# Altium schematic symbol library WE-SPXO.SchLib: 254 symbols (part 1 of 5)
Pins are listed as number, name and electrical type; pins without a type are passive.

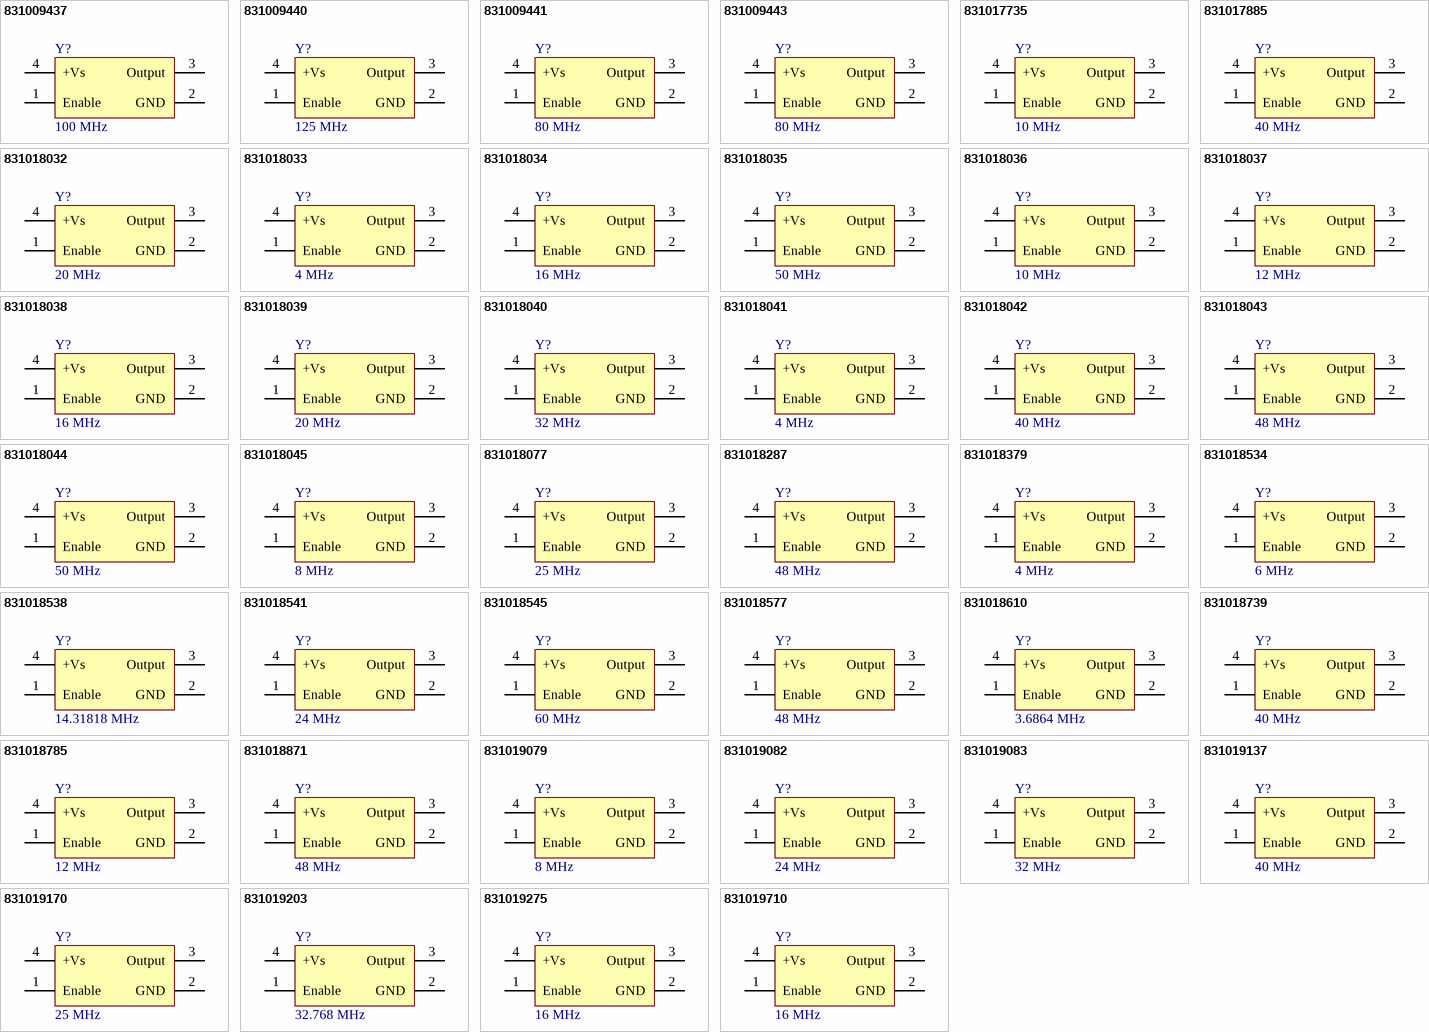
[diagram p0: symbols 831009437 to 831019710]

## 831009437
designator Y?, comment 100 MHz
WE-SPXO Simple Packaged Quartz Oscillator, CFPS-73, 100 MHz, 50 ppm, 3.3 V; Manufacturer Part Number: 831009437; Manufacturer: Wurth Elektronik; Frequency Stability: 50 ppm; Output Logic: CMOS; Supply Voltage: 3.3 V; Category: Oscillators; Match Code: WE-SPXO; ComponentLink1Description: Website Link; ComponentLink1URL: https://www.we-online.com/redexpert/article/831009437?ad; ComponentLink2Description: Datasheet Link; ComponentLink2URL: https://www.we-online.com/redexpert/spec/831009437?ad; Mount: Surface Mount; Min Operating Temperature: 0 °C; Max Operating Temperature: 70 °C; Packaging: Tape and Reel; Case/Size Code: CFPS-73; Length: 7 mm; Width: 5 mm; Height: 1.8 mm; Application: Processor, Ethernet, PCI Express, PHY; Frequency: 100 MHz
footprint WE-SPXO_CFPS-73
pins: 1 Enable, 2 GND, 3 Output, 4 +Vs

## 831009440
designator Y?, comment 125 MHz
WE-SPXO Simple Packaged Quartz Oscillator, CFPS-73, 125 MHz, 50 ppm, 3.3 V; Manufacturer Part Number: 831009440; Manufacturer: Wurth Elektronik; Frequency Stability: 50 ppm; Output Logic: CMOS; Supply Voltage: 3.3 V; Category: Oscillators; Match Code: WE-SPXO; ComponentLink1Description: Website Link; ComponentLink1URL: https://www.we-online.com/redexpert/article/831009440?ad; ComponentLink2Description: Datasheet Link; ComponentLink2URL: https://www.we-online.com/redexpert/spec/831009440?ad; Mount: Surface Mount; Min Operating Temperature: 0 °C; Max Operating Temperature: 70 °C; Packaging: Tape and Reel; Case/Size Code: CFPS-73; Length: 7 mm; Width: 5 mm; Height: 1.8 mm; Application: Ethernet, PHY; Frequency: 125 MHz
footprint WE-SPXO_CFPS-73
pins: 1 Enable, 2 GND, 3 Output, 4 +Vs

## 831009441
designator Y?, comment 80 MHz
WE-SPXO Simple Packaged Quartz Oscillator, CFPS-73, 80 MHz, 50 ppm, 3.3 V; Manufacturer Part Number: 831009441; Manufacturer: Wurth Elektronik; Frequency Stability: 50 ppm; Output Logic: CMOS; Supply Voltage: 3.3 V; Category: Oscillators; Match Code: WE-SPXO; ComponentLink1Description: Website Link; ComponentLink1URL: https://www.we-online.com/redexpert/article/831009441?ad; ComponentLink2Description: Datasheet Link; ComponentLink2URL: https://www.we-online.com/redexpert/spec/831009441?ad; Mount: Surface Mount; Min Operating Temperature: 0 °C; Max Operating Temperature: 70 °C; Packaging: Tape and Reel; Case/Size Code: CFPS-73; Length: 7 mm; Width: 5 mm; Height: 1.8 mm; Application: Processor, Audio; Frequency: 80 MHz
footprint WE-SPXO_CFPS-73
pins: 1 Enable, 2 GND, 3 Output, 4 +Vs

## 831009443
designator Y?, comment 80 MHz
WE-SPXO Simple Packaged Quartz Oscillator, CFPS-72, 80 MHz, 50 ppm, 5 V; Manufacturer Part Number: 831009443; Manufacturer: Wurth Elektronik; Frequency Stability: 50 ppm; Output Logic: CMOS; Supply Voltage: 5 V; Category: Oscillators; Match Code: WE-SPXO; ComponentLink1Description: Website Link; ComponentLink1URL: https://www.we-online.com/redexpert/article/831009443?ad; ComponentLink2Description: Datasheet Link; ComponentLink2URL: https://www.we-online.com/redexpert/spec/831009443?ad; Mount: Surface Mount; Min Operating Temperature: 0 °C; Max Operating Temperature: 70 °C; Packaging: Tape and Reel; Case/Size Code: CFPS-72; Length: 7 mm; Width: 5 mm; Height: 1.8 mm; Application: Processor, Audio; Frequency: 80 MHz
footprint WE-SPXO_CFPS-72
pins: 1 Enable, 2 GND, 3 Output, 4 +Vs

## 831017735
designator Y?, comment 10 MHz
WE-SPXO Simple Packaged Quartz Oscillator, CFPS-72, 10 MHz, 50 ppm, 5 V; Manufacturer Part Number: 831017735; Manufacturer: Wurth Elektronik; Frequency Stability: 50 ppm; Output Logic: CMOS; Supply Voltage: 5 V; Category: Oscillators; Match Code: WE-SPXO; ComponentLink1Description: Website Link; ComponentLink1URL: https://www.we-online.com/redexpert/article/831017735?ad; ComponentLink2Description: Datasheet Link; ComponentLink2URL: https://www.we-online.com/redexpert/spec/831017735?ad; Mount: Surface Mount; Min Operating Temperature: 0 °C; Max Operating Temperature: 70 °C; Packaging: Tape and Reel; Case/Size Code: CFPS-72; Length: 7 mm; Width: 5 mm; Height: 1.8 mm; Application: Processor, Ethernet; Frequency: 10 MHz
footprint WE-SPXO_CFPS-72
pins: 1 Enable, 2 GND, 3 Output, 4 +Vs

## 831017885
designator Y?, comment 40 MHz
WE-SPXO Simple Packaged Quartz Oscillator, CFPS-73, 40 MHz, 50 ppm, 3.3 V; Manufacturer Part Number: 831017885; Manufacturer: Wurth Elektronik; Frequency Stability: 50 ppm; Output Logic: CMOS; Supply Voltage: 3.3 V; Category: Oscillators; Match Code: WE-SPXO; ComponentLink1Description: Website Link; ComponentLink1URL: https://www.we-online.com/redexpert/article/831017885?ad; ComponentLink2Description: Datasheet Link; ComponentLink2URL: https://www.we-online.com/redexpert/spec/831017885?ad; Mount: Surface Mount; Min Operating Temperature: -40 °C; Max Operating Temperature: 85 °C; Packaging: Tape and Reel; Case/Size Code: CFPS-73; Length: 7 mm; Width: 5 mm; Height: 1.8 mm; Application: Processor, USB, 3G/4G/5G, CAN, Wi-Fi; Frequency: 40 MHz
footprint WE-SPXO_CFPS-73
pins: 1 Enable, 2 GND, 3 Output, 4 +Vs

## 831018032
designator Y?, comment 20 MHz
WE-SPXO Simple Packaged Quartz Oscillator, CFPS-72, 20 MHz, 50 ppm, 5 V; Manufacturer Part Number: 831018032; Manufacturer: Wurth Elektronik; Frequency Stability: 50 ppm; Output Logic: CMOS; Supply Voltage: 5 V; Category: Oscillators; Match Code: WE-SPXO; ComponentLink1Description: Website Link; ComponentLink1URL: https://www.we-online.com/redexpert/article/831018032?ad; ComponentLink2Description: Datasheet Link; ComponentLink2URL: https://www.we-online.com/redexpert/spec/831018032?ad; Mount: Surface Mount; Min Operating Temperature: 0 °C; Max Operating Temperature: 70 °C; Packaging: Tape and Reel; Case/Size Code: CFPS-72; Length: 7 mm; Width: 5 mm; Height: 1.8 mm; Application: Processor, CAN, USB, Ethernet, Wi-Fi; Frequency: 20 MHz
footprint WE-SPXO_CFPS-72
pins: 1 Enable, 2 GND, 3 Output, 4 +Vs

## 831018033
designator Y?, comment 4 MHz
WE-SPXO Simple Packaged Quartz Oscillator, CFPS-72, 4 MHz, 50 ppm, 5 V; Manufacturer Part Number: 831018033; Manufacturer: Wurth Elektronik; Frequency Stability: 50 ppm; Output Logic: CMOS; Supply Voltage: 5 V; Category: Oscillators; Match Code: WE-SPXO; ComponentLink1Description: Website Link; ComponentLink1URL: https://www.we-online.com/redexpert/article/831018033?ad; ComponentLink2Description: Datasheet Link; ComponentLink2URL: https://www.we-online.com/redexpert/spec/831018033?ad; Mount: Surface Mount; Min Operating Temperature: 0 °C; Max Operating Temperature: 70 °C; Packaging: Tape and Reel; Case/Size Code: CFPS-72; Length: 7 mm; Width: 5 mm; Height: 1.8 mm; Application: CAN, Processor; Frequency: 4 MHz
footprint WE-SPXO_CFPS-72
pins: 1 Enable, 2 GND, 3 Output, 4 +Vs

## 831018034
designator Y?, comment 16 MHz
WE-SPXO Simple Packaged Quartz Oscillator, CFPS-72, 16 MHz, 50 ppm, 5 V; Manufacturer Part Number: 831018034; Manufacturer: Wurth Elektronik; Frequency Stability: 50 ppm; Output Logic: CMOS; Supply Voltage: 5 V; Category: Oscillators; Match Code: WE-SPXO; ComponentLink1Description: Website Link; ComponentLink1URL: https://www.we-online.com/redexpert/article/831018034?ad; ComponentLink2Description: Datasheet Link; ComponentLink2URL: https://www.we-online.com/redexpert/spec/831018034?ad; Mount: Surface Mount; Min Operating Temperature: 0 °C; Max Operating Temperature: 70 °C; Packaging: Tape and Reel; Case/Size Code: CFPS-72; Length: 7 mm; Width: 5 mm; Height: 1.8 mm; Application: Processor, CAN, Bluetooth; Frequency: 16 MHz
footprint WE-SPXO_CFPS-72
pins: 1 Enable, 2 GND, 3 Output, 4 +Vs

## 831018035
designator Y?, comment 50 MHz
WE-SPXO Simple Packaged Quartz Oscillator, CFPS-72, 50 MHz, 50 ppm, 5 V; Manufacturer Part Number: 831018035; Manufacturer: Wurth Elektronik; Frequency Stability: 50 ppm; Output Logic: CMOS; Supply Voltage: 5 V; Category: Oscillators; Match Code: WE-SPXO; ComponentLink1Description: Website Link; ComponentLink1URL: https://www.we-online.com/redexpert/article/831018035?ad; ComponentLink2Description: Datasheet Link; ComponentLink2URL: https://www.we-online.com/redexpert/spec/831018035?ad; Mount: Surface Mount; Min Operating Temperature: 0 °C; Max Operating Temperature: 70 °C; Packaging: Tape and Reel; Case/Size Code: CFPS-72; Length: 7 mm; Width: 5 mm; Height: 1.8 mm; Application: Processor, Ethernet, PCI Express, PHY; Frequency: 50 MHz
footprint WE-SPXO_CFPS-72
pins: 1 Enable, 2 GND, 3 Output, 4 +Vs

## 831018036
designator Y?, comment 10 MHz
WE-SPXO Simple Packaged Quartz Oscillator, CFPS-73, 10 MHz, 50 ppm, 3.3 V; Manufacturer Part Number: 831018036; Manufacturer: Wurth Elektronik; Frequency Stability: 50 ppm; Output Logic: CMOS; Supply Voltage: 3.3 V; Category: Oscillators; Match Code: WE-SPXO; ComponentLink1Description: Website Link; ComponentLink1URL: https://www.we-online.com/redexpert/article/831018036?ad; ComponentLink2Description: Datasheet Link; ComponentLink2URL: https://www.we-online.com/redexpert/spec/831018036?ad; Mount: Surface Mount; Min Operating Temperature: 0 °C; Max Operating Temperature: 70 °C; Packaging: Tape and Reel; Case/Size Code: CFPS-73; Length: 7 mm; Width: 5 mm; Height: 1.8 mm; Application: Processor, Ethernet; Frequency: 10 MHz
footprint WE-SPXO_CFPS-73
pins: 1 Enable, 2 GND, 3 Output, 4 +Vs

## 831018037
designator Y?, comment 12 MHz
WE-SPXO Simple Packaged Quartz Oscillator, CFPS-73, 12 MHz, 50 ppm, 3.3 V; Manufacturer Part Number: 831018037; Manufacturer: Wurth Elektronik; Frequency Stability: 50 ppm; Output Logic: CMOS; Supply Voltage: 3.3 V; Category: Oscillators; Match Code: WE-SPXO; ComponentLink1Description: Website Link; ComponentLink1URL: https://www.we-online.com/redexpert/article/831018037?ad; ComponentLink2Description: Datasheet Link; ComponentLink2URL: https://www.we-online.com/redexpert/spec/831018037?ad; Mount: Surface Mount; Min Operating Temperature: 0 °C; Max Operating Temperature: 70 °C; Packaging: Tape and Reel; Case/Size Code: CFPS-73; Length: 7 mm; Width: 5 mm; Height: 1.8 mm; Application: Processor, USB, CAN; Frequency: 12 MHz
footprint WE-SPXO_CFPS-73
pins: 1 Enable, 2 GND, 3 Output, 4 +Vs

## 831018038
designator Y?, comment 16 MHz
WE-SPXO Simple Packaged Quartz Oscillator, CFPS-73, 16 MHz, 50 ppm, 3.3 V; Manufacturer Part Number: 831018038; Manufacturer: Wurth Elektronik; Frequency Stability: 50 ppm; Output Logic: CMOS; Supply Voltage: 3.3 V; Category: Oscillators; Match Code: WE-SPXO; ComponentLink1Description: Website Link; ComponentLink1URL: https://www.we-online.com/redexpert/article/831018038?ad; ComponentLink2Description: Datasheet Link; ComponentLink2URL: https://www.we-online.com/redexpert/spec/831018038?ad; Mount: Surface Mount; Min Operating Temperature: 0 °C; Max Operating Temperature: 70 °C; Packaging: Tape and Reel; Case/Size Code: CFPS-73; Length: 7 mm; Width: 5 mm; Height: 1.8 mm; Application: Processor, CAN, Bluetooth; Frequency: 16 MHz
footprint WE-SPXO_CFPS-73
pins: 1 Enable, 2 GND, 3 Output, 4 +Vs

## 831018039
designator Y?, comment 20 MHz
WE-SPXO Simple Packaged Quartz Oscillator, CFPS-73, 20 MHz, 50 ppm, 3.3 V; Manufacturer Part Number: 831018039; Manufacturer: Wurth Elektronik; Frequency Stability: 50 ppm; Output Logic: CMOS; Supply Voltage: 3.3 V; Category: Oscillators; Match Code: WE-SPXO; ComponentLink1Description: Website Link; ComponentLink1URL: https://www.we-online.com/redexpert/article/831018039?ad; ComponentLink2Description: Datasheet Link; ComponentLink2URL: https://www.we-online.com/redexpert/spec/831018039?ad; Mount: Surface Mount; Min Operating Temperature: 0 °C; Max Operating Temperature: 70 °C; Packaging: Tape and Reel; Case/Size Code: CFPS-73; Length: 7 mm; Width: 5 mm; Height: 1.8 mm; Application: Processor, CAN, USB, Ethernet, Wi-Fi; Frequency: 20 MHz
footprint WE-SPXO_CFPS-73
pins: 1 Enable, 2 GND, 3 Output, 4 +Vs

## 831018040
designator Y?, comment 32 MHz
WE-SPXO Simple Packaged Quartz Oscillator, CFPS-73, 32 MHz, 50 ppm, 3.3 V; Manufacturer Part Number: 831018040; Manufacturer: Wurth Elektronik; Frequency Stability: 50 ppm; Output Logic: CMOS; Supply Voltage: 3.3 V; Category: Oscillators; Match Code: WE-SPXO; ComponentLink1Description: Website Link; ComponentLink1URL: https://www.we-online.com/redexpert/article/831018040?ad; ComponentLink2Description: Datasheet Link; ComponentLink2URL: https://www.we-online.com/redexpert/spec/831018040?ad; Mount: Surface Mount; Min Operating Temperature: 0 °C; Max Operating Temperature: 70 °C; Packaging: Tape and Reel; Case/Size Code: CFPS-73; Length: 7 mm; Width: 5 mm; Height: 1.8 mm; Application: Processor, Bluetooth; Frequency: 32 MHz
footprint WE-SPXO_CFPS-73
pins: 1 Enable, 2 GND, 3 Output, 4 +Vs

## 831018041
designator Y?, comment 4 MHz
WE-SPXO Simple Packaged Quartz Oscillator, CFPS-73, 4 MHz, 50 ppm, 3.3 V; Manufacturer Part Number: 831018041; Manufacturer: Wurth Elektronik; Frequency Stability: 50 ppm; Output Logic: CMOS; Supply Voltage: 3.3 V; Category: Oscillators; Match Code: WE-SPXO; ComponentLink1Description: Website Link; ComponentLink1URL: https://www.we-online.com/redexpert/article/831018041?ad; ComponentLink2Description: Datasheet Link; ComponentLink2URL: https://www.we-online.com/redexpert/spec/831018041?ad; Mount: Surface Mount; Min Operating Temperature: 0 °C; Max Operating Temperature: 70 °C; Packaging: Tape and Reel; Case/Size Code: CFPS-73; Length: 7 mm; Width: 5 mm; Height: 1.8 mm; Application: CAN, Processor; Frequency: 4 MHz
footprint WE-SPXO_CFPS-73
pins: 1 Enable, 2 GND, 3 Output, 4 +Vs

## 831018042
designator Y?, comment 40 MHz
WE-SPXO Simple Packaged Quartz Oscillator, CFPS-73, 40 MHz, 50 ppm, 3.3 V; Manufacturer Part Number: 831018042; Manufacturer: Wurth Elektronik; Frequency Stability: 50 ppm; Output Logic: CMOS; Supply Voltage: 3.3 V; Category: Oscillators; Match Code: WE-SPXO; ComponentLink1Description: Website Link; ComponentLink1URL: https://www.we-online.com/redexpert/article/831018042?ad; ComponentLink2Description: Datasheet Link; ComponentLink2URL: https://www.we-online.com/redexpert/spec/831018042?ad; Mount: Surface Mount; Min Operating Temperature: 0 °C; Max Operating Temperature: 70 °C; Packaging: Tape and Reel; Case/Size Code: CFPS-73; Length: 7 mm; Width: 5 mm; Height: 1.8 mm; Application: Processor, USB, 3G/4G/5G, CAN, Wi-Fi; Frequency: 40 MHz
footprint WE-SPXO_CFPS-73
pins: 1 Enable, 2 GND, 3 Output, 4 +Vs

## 831018043
designator Y?, comment 48 MHz
WE-SPXO Simple Packaged Quartz Oscillator, CFPS-73, 48 MHz, 50 ppm, 3.3 V; Manufacturer Part Number: 831018043; Manufacturer: Wurth Elektronik; Frequency Stability: 50 ppm; Output Logic: CMOS; Supply Voltage: 3.3 V; Category: Oscillators; Match Code: WE-SPXO; ComponentLink1Description: Website Link; ComponentLink1URL: https://www.we-online.com/redexpert/article/831018043?ad; ComponentLink2Description: Datasheet Link; ComponentLink2URL: https://www.we-online.com/redexpert/spec/831018043?ad; Mount: Surface Mount; Min Operating Temperature: 0 °C; Max Operating Temperature: 70 °C; Packaging: Tape and Reel; Case/Size Code: CFPS-73; Length: 7 mm; Width: 5 mm; Height: 1.8 mm; Application: Processor, USB, Wi-Fi; Frequency: 48 MHz
footprint WE-SPXO_CFPS-73
pins: 1 Enable, 2 GND, 3 Output, 4 +Vs

## 831018044
designator Y?, comment 50 MHz
WE-SPXO Simple Packaged Quartz Oscillator, CFPS-73, 50 MHz, 50 ppm, 3.3 V; Manufacturer Part Number: 831018044; Manufacturer: Wurth Elektronik; Frequency Stability: 50 ppm; Output Logic: CMOS; Supply Voltage: 3.3 V; Category: Oscillators; Match Code: WE-SPXO; ComponentLink1Description: Website Link; ComponentLink1URL: https://www.we-online.com/redexpert/article/831018044?ad; ComponentLink2Description: Datasheet Link; ComponentLink2URL: https://www.we-online.com/redexpert/spec/831018044?ad; Mount: Surface Mount; Min Operating Temperature: 0 °C; Max Operating Temperature: 70 °C; Packaging: Tape and Reel; Case/Size Code: CFPS-73; Length: 7 mm; Width: 5 mm; Height: 1.8 mm; Application: Processor, Ethernet, PCI Express, PHY; Frequency: 50 MHz
footprint WE-SPXO_CFPS-73
pins: 1 Enable, 2 GND, 3 Output, 4 +Vs

## 831018045
designator Y?, comment 8 MHz
WE-SPXO Simple Packaged Quartz Oscillator, CFPS-73, 8 MHz, 50 ppm, 3.3 V; Manufacturer Part Number: 831018045; Manufacturer: Wurth Elektronik; Frequency Stability: 50 ppm; Output Logic: CMOS; Supply Voltage: 3.3 V; Category: Oscillators; Match Code: WE-SPXO; ComponentLink1Description: Website Link; ComponentLink1URL: https://www.we-online.com/redexpert/article/831018045?ad; ComponentLink2Description: Datasheet Link; ComponentLink2URL: https://www.we-online.com/redexpert/spec/831018045?ad; Mount: Surface Mount; Min Operating Temperature: 0 °C; Max Operating Temperature: 70 °C; Packaging: Tape and Reel; Case/Size Code: CFPS-73; Length: 7 mm; Width: 5 mm; Height: 1.8 mm; Application: Processor, UART; Frequency: 8 MHz
footprint WE-SPXO_CFPS-73
pins: 1 Enable, 2 GND, 3 Output, 4 +Vs

## 831018077
designator Y?, comment 25 MHz
WE-SPXO Simple Packaged Quartz Oscillator, CFPS-73, 25 MHz, 50 ppm, 3.3 V; Manufacturer Part Number: 831018077; Manufacturer: Wurth Elektronik; Frequency Stability: 50 ppm; Output Logic: CMOS; Supply Voltage: 3.3 V; Category: Oscillators; Match Code: WE-SPXO; ComponentLink1Description: Website Link; ComponentLink1URL: https://www.we-online.com/redexpert/article/831018077?ad; ComponentLink2Description: Datasheet Link; ComponentLink2URL: https://www.we-online.com/redexpert/spec/831018077?ad; Mount: Surface Mount; Min Operating Temperature: 0 °C; Max Operating Temperature: 70 °C; Packaging: Tape and Reel; Case/Size Code: CFPS-73; Length: 7 mm; Width: 5 mm; Height: 1.8 mm; Application: Processor, USB, 3G/4G/5G, Ethernet, Small Cell, PHY, PCI Express; Frequency: 25 MHz
footprint WE-SPXO_CFPS-73
pins: 1 Enable, 2 GND, 3 Output, 4 +Vs

## 831018287
designator Y?, comment 48 MHz
WE-SPXO Simple Packaged Quartz Oscillator, CFPS-73, 48 MHz, 100 ppm, 3.3 V; Manufacturer Part Number: 831018287; Manufacturer: Wurth Elektronik; Frequency Stability: 100 ppm; Output Logic: CMOS; Supply Voltage: 3.3 V; Category: Oscillators; Match Code: WE-SPXO; ComponentLink1Description: Website Link; ComponentLink1URL: https://www.we-online.com/redexpert/article/831018287?ad; ComponentLink2Description: Datasheet Link; ComponentLink2URL: https://www.we-online.com/redexpert/spec/831018287?ad; Mount: Surface Mount; Min Operating Temperature: -40 °C; Max Operating Temperature: 85 °C; Packaging: Tape and Reel; Case/Size Code: CFPS-73; Length: 7 mm; Width: 5 mm; Height: 1.8 mm; Application: Processor, USB, Wi-Fi; Frequency: 48 MHz
footprint WE-SPXO_CFPS-73
pins: 1 Enable, 2 GND, 3 Output, 4 +Vs

## 831018379
designator Y?, comment 4 MHz
WE-SPXO Simple Packaged Quartz Oscillator, CFPS-73, 4 MHz, 50 ppm, 3.3 V; Manufacturer Part Number: 831018379; Manufacturer: Wurth Elektronik; Frequency Stability: 50 ppm; Output Logic: CMOS; Supply Voltage: 3.3 V; Category: Oscillators; Match Code: WE-SPXO; ComponentLink1Description: Website Link; ComponentLink1URL: https://www.we-online.com/redexpert/article/831018379?ad; ComponentLink2Description: Datasheet Link; ComponentLink2URL: https://www.we-online.com/redexpert/spec/831018379?ad; Mount: Surface Mount; Min Operating Temperature: -40 °C; Max Operating Temperature: 85 °C; Packaging: Tape and Reel; Case/Size Code: CFPS-73; Length: 7 mm; Width: 5 mm; Height: 1.8 mm; Application: CAN, Processor; Frequency: 4 MHz
footprint WE-SPXO_CFPS-73
pins: 1 Enable, 2 GND, 3 Output, 4 +Vs

## 831018534
designator Y?, comment 6 MHz
WE-SPXO Simple Packaged Quartz Oscillator, CFPS-73, 6 MHz, 50 ppm, 3.3 V; Manufacturer Part Number: 831018534; Manufacturer: Wurth Elektronik; Frequency Stability: 50 ppm; Output Logic: CMOS; Supply Voltage: 3.3 V; Category: Oscillators; Match Code: WE-SPXO; ComponentLink1Description: Website Link; ComponentLink1URL: https://www.we-online.com/redexpert/article/831018534?ad; ComponentLink2Description: Datasheet Link; ComponentLink2URL: https://www.we-online.com/redexpert/spec/831018534?ad; Mount: Surface Mount; Min Operating Temperature: 0 °C; Max Operating Temperature: 70 °C; Packaging: Tape and Reel; Case/Size Code: CFPS-73; Length: 7 mm; Width: 5 mm; Height: 1.8 mm; Application: Processor, USB; Frequency: 6 MHz
footprint WE-SPXO_CFPS-73
pins: 1 Enable, 2 GND, 3 Output, 4 +Vs

## 831018538
designator Y?, comment 14.31818 MHz
WE-SPXO Simple Packaged Quartz Oscillator, CFPS-73, 14.31818 MHz, 50 ppm, 3.3 V; Manufacturer Part Number: 831018538; Manufacturer: Wurth Elektronik; Frequency Stability: 50 ppm; Output Logic: CMOS; Supply Voltage: 3.3 V; Category: Oscillators; Match Code: WE-SPXO; ComponentLink1Description: Website Link; ComponentLink1URL: https://www.we-online.com/redexpert/article/831018538?ad; ComponentLink2Description: Datasheet Link; ComponentLink2URL: https://www.we-online.com/redexpert/spec/831018538?ad; Mount: Surface Mount; Min Operating Temperature: 0 °C; Max Operating Temperature: 70 °C; Packaging: Tape and Reel; Case/Size Code: CFPS-73; Length: 7 mm; Width: 5 mm; Height: 1.8 mm; Application: Processor; Frequency: 14.31818 MHz
footprint WE-SPXO_CFPS-73
pins: 1 Enable, 2 GND, 3 Output, 4 +Vs

## 831018541
designator Y?, comment 24 MHz
WE-SPXO Simple Packaged Quartz Oscillator, CFPS-73, 24 MHz, 50 ppm, 3.3 V; Manufacturer Part Number: 831018541; Manufacturer: Wurth Elektronik; Frequency Stability: 50 ppm; Output Logic: CMOS; Supply Voltage: 3.3 V; Category: Oscillators; Match Code: WE-SPXO; ComponentLink1Description: Website Link; ComponentLink1URL: https://www.we-online.com/redexpert/article/831018541?ad; ComponentLink2Description: Datasheet Link; ComponentLink2URL: https://www.we-online.com/redexpert/spec/831018541?ad; Mount: Surface Mount; Min Operating Temperature: 0 °C; Max Operating Temperature: 70 °C; Packaging: Tape and Reel; Case/Size Code: CFPS-73; Length: 7 mm; Width: 5 mm; Height: 1.8 mm; Application: Processor, USB, Bluetooth; Frequency: 24 MHz
footprint WE-SPXO_CFPS-73
pins: 1 Enable, 2 GND, 3 Output, 4 +Vs

## 831018545
designator Y?, comment 60 MHz
WE-SPXO Simple Packaged Quartz Oscillator, CFPS-73, 60 MHz, 50 ppm, 3.3 V; Manufacturer Part Number: 831018545; Manufacturer: Wurth Elektronik; Frequency Stability: 50 ppm; Output Logic: CMOS; Supply Voltage: 3.3 V; Category: Oscillators; Match Code: WE-SPXO; ComponentLink1Description: Website Link; ComponentLink1URL: https://www.we-online.com/redexpert/article/831018545?ad; ComponentLink2Description: Datasheet Link; ComponentLink2URL: https://www.we-online.com/redexpert/spec/831018545?ad; Mount: Surface Mount; Min Operating Temperature: 0 °C; Max Operating Temperature: 70 °C; Packaging: Tape and Reel; Case/Size Code: CFPS-73; Length: 7 mm; Width: 5 mm; Height: 1.8 mm; Application: Processor; Frequency: 60 MHz
footprint WE-SPXO_CFPS-73
pins: 1 Enable, 2 GND, 3 Output, 4 +Vs

## 831018577
designator Y?, comment 48 MHz
WE-SPXO Simple Packaged Quartz Oscillator, CFPS-73, 48 MHz, 50 ppm, 3.3 V; Manufacturer Part Number: 831018577; Manufacturer: Wurth Elektronik; Frequency Stability: 50 ppm; Output Logic: CMOS; Supply Voltage: 3.3 V; Category: Oscillators; Match Code: WE-SPXO; ComponentLink1Description: Website Link; ComponentLink1URL: https://www.we-online.com/redexpert/article/831018577?ad; ComponentLink2Description: Datasheet Link; ComponentLink2URL: https://www.we-online.com/redexpert/spec/831018577?ad; Mount: Surface Mount; Min Operating Temperature: -40 °C; Max Operating Temperature: 85 °C; Packaging: Tape and Reel; Case/Size Code: CFPS-73; Length: 7 mm; Width: 5 mm; Height: 1.8 mm; Application: Processor, USB, Wi-Fi; Frequency: 48 MHz
footprint WE-SPXO_CFPS-73
pins: 1 Enable, 2 GND, 3 Output, 4 +Vs

## 831018610
designator Y?, comment 3.6864 MHz
WE-SPXO Simple Packaged Quartz Oscillator, CFPS-73, 3.6864 MHz, 50 ppm, 3.3 V; Manufacturer Part Number: 831018610; Manufacturer: Wurth Elektronik; Frequency Stability: 50 ppm; Output Logic: CMOS; Supply Voltage: 3.3 V; Category: Oscillators; Match Code: WE-SPXO; ComponentLink1Description: Website Link; ComponentLink1URL: https://www.we-online.com/redexpert/article/831018610?ad; ComponentLink2Description: Datasheet Link; ComponentLink2URL: https://www.we-online.com/redexpert/spec/831018610?ad; Mount: Surface Mount; Min Operating Temperature: 0 °C; Max Operating Temperature: 70 °C; Packaging: Tape and Reel; Case/Size Code: CFPS-73; Length: 7 mm; Width: 5 mm; Height: 1.8 mm; Application: Processor, UART; Frequency: 3.6864 MHz
footprint WE-SPXO_CFPS-73
pins: 1 Enable, 2 GND, 3 Output, 4 +Vs

## 831018739
designator Y?, comment 40 MHz
WE-SPXO Simple Packaged Quartz Oscillator, CFPS-72, 40 MHz, 50 ppm, 5 V; Manufacturer Part Number: 831018739; Manufacturer: Wurth Elektronik; Frequency Stability: 50 ppm; Output Logic: CMOS; Supply Voltage: 5 V; Category: Oscillators; Match Code: WE-SPXO; ComponentLink1Description: Website Link; ComponentLink1URL: https://www.we-online.com/redexpert/article/831018739?ad; ComponentLink2Description: Datasheet Link; ComponentLink2URL: https://www.we-online.com/redexpert/spec/831018739?ad; Mount: Surface Mount; Min Operating Temperature: 0 °C; Max Operating Temperature: 70 °C; Packaging: Tape and Reel; Case/Size Code: CFPS-72; Length: 7 mm; Width: 5 mm; Height: 1.8 mm; Application: Processor, USB, 3G/4G/5G, CAN, Wi-Fi; Frequency: 40 MHz
footprint WE-SPXO_CFPS-72
pins: 1 Enable, 2 GND, 3 Output, 4 +Vs

## 831018785
designator Y?, comment 12 MHz
WE-SPXO Simple Packaged Quartz Oscillator, CFPS-73, 12 MHz, 100 ppm, 3.3 V; Manufacturer Part Number: 831018785; Manufacturer: Wurth Elektronik; Frequency Stability: 100 ppm; Output Logic: CMOS; Supply Voltage: 3.3 V; Category: Oscillators; Match Code: WE-SPXO; ComponentLink1Description: Website Link; ComponentLink1URL: https://www.we-online.com/redexpert/article/831018785?ad; ComponentLink2Description: Datasheet Link; ComponentLink2URL: https://www.we-online.com/redexpert/spec/831018785?ad; Mount: Surface Mount; Min Operating Temperature: -40 °C; Max Operating Temperature: 85 °C; Packaging: Tape and Reel; Case/Size Code: CFPS-73; Length: 7 mm; Width: 5 mm; Height: 1.8 mm; Application: Processor, USB, CAN; Frequency: 12 MHz
footprint WE-SPXO_CFPS-73
pins: 1 Enable, 2 GND, 3 Output, 4 +Vs

## 831018871
designator Y?, comment 48 MHz
WE-SPXO Simple Packaged Quartz Oscillator, CFPS-72, 48 MHz, 100 ppm, 5 V; Manufacturer Part Number: 831018871; Manufacturer: Wurth Elektronik; Frequency Stability: 100 ppm; Output Logic: CMOS; Supply Voltage: 5 V; Category: Oscillators; Match Code: WE-SPXO; ComponentLink1Description: Website Link; ComponentLink1URL: https://www.we-online.com/redexpert/article/831018871?ad; ComponentLink2Description: Datasheet Link; ComponentLink2URL: https://www.we-online.com/redexpert/spec/831018871?ad; Mount: Surface Mount; Min Operating Temperature: -40 °C; Max Operating Temperature: 85 °C; Packaging: Tape and Reel; Case/Size Code: CFPS-72; Length: 7 mm; Width: 5 mm; Height: 1.8 mm; Application: Processor, USB, Wi-Fi; Frequency: 48 MHz
footprint WE-SPXO_CFPS-72
pins: 1 Enable, 2 GND, 3 Output, 4 +Vs

## 831019079
designator Y?, comment 8 MHz
WE-SPXO Simple Packaged Quartz Oscillator, CFPS-72, 8 MHz, 50 ppm, 5 V; Manufacturer Part Number: 831019079; Manufacturer: Wurth Elektronik; Frequency Stability: 50 ppm; Output Logic: CMOS; Supply Voltage: 5 V; Category: Oscillators; Match Code: WE-SPXO; ComponentLink1Description: Website Link; ComponentLink1URL: https://www.we-online.com/redexpert/article/831019079?ad; ComponentLink2Description: Datasheet Link; ComponentLink2URL: https://www.we-online.com/redexpert/spec/831019079?ad; Mount: Surface Mount; Min Operating Temperature: 0 °C; Max Operating Temperature: 70 °C; Packaging: Tape and Reel; Case/Size Code: CFPS-72; Length: 7 mm; Width: 5 mm; Height: 1.8 mm; Application: Processor, UART; Frequency: 8 MHz
footprint WE-SPXO_CFPS-72
pins: 1 Enable, 2 GND, 3 Output, 4 +Vs

## 831019082
designator Y?, comment 24 MHz
WE-SPXO Simple Packaged Quartz Oscillator, CFPS-72, 24 MHz, 50 ppm, 5 V; Manufacturer Part Number: 831019082; Manufacturer: Wurth Elektronik; Frequency Stability: 50 ppm; Output Logic: CMOS; Supply Voltage: 5 V; Category: Oscillators; Match Code: WE-SPXO; ComponentLink1Description: Website Link; ComponentLink1URL: https://www.we-online.com/redexpert/article/831019082?ad; ComponentLink2Description: Datasheet Link; ComponentLink2URL: https://www.we-online.com/redexpert/spec/831019082?ad; Mount: Surface Mount; Min Operating Temperature: 0 °C; Max Operating Temperature: 70 °C; Packaging: Tape and Reel; Case/Size Code: CFPS-72; Length: 7 mm; Width: 5 mm; Height: 1.8 mm; Application: Processor, USB, Bluetooth; Frequency: 24 MHz
footprint WE-SPXO_CFPS-72
pins: 1 Enable, 2 GND, 3 Output, 4 +Vs

## 831019083
designator Y?, comment 32 MHz
WE-SPXO Simple Packaged Quartz Oscillator, CFPS-72, 32 MHz, 50 ppm, 5 V; Manufacturer Part Number: 831019083; Manufacturer: Wurth Elektronik; Frequency Stability: 50 ppm; Output Logic: CMOS; Supply Voltage: 5 V; Category: Oscillators; Match Code: WE-SPXO; ComponentLink1Description: Website Link; ComponentLink1URL: https://www.we-online.com/redexpert/article/831019083?ad; ComponentLink2Description: Datasheet Link; ComponentLink2URL: https://www.we-online.com/redexpert/spec/831019083?ad; Mount: Surface Mount; Min Operating Temperature: 0 °C; Max Operating Temperature: 70 °C; Packaging: Tape and Reel; Case/Size Code: CFPS-72; Length: 7 mm; Width: 5 mm; Height: 1.8 mm; Application: Processor, Bluetooth; Frequency: 32 MHz
footprint WE-SPXO_CFPS-72
pins: 1 Enable, 2 GND, 3 Output, 4 +Vs

## 831019137
designator Y?, comment 40 MHz
WE-SPXO Simple Packaged Quartz Oscillator, CFPS-72, 40 MHz, 50 ppm, 5 V; Manufacturer Part Number: 831019137; Manufacturer: Wurth Elektronik; Frequency Stability: 50 ppm; Output Logic: CMOS; Supply Voltage: 5 V; Category: Oscillators; Match Code: WE-SPXO; ComponentLink1Description: Website Link; ComponentLink1URL: https://www.we-online.com/redexpert/article/831019137?ad; ComponentLink2Description: Datasheet Link; ComponentLink2URL: https://www.we-online.com/redexpert/spec/831019137?ad; Mount: Surface Mount; Min Operating Temperature: -40 °C; Max Operating Temperature: 85 °C; Packaging: Tape and Reel; Case/Size Code: CFPS-72; Length: 7 mm; Width: 5 mm; Height: 1.8 mm; Application: Processor, USB, 3G/4G/5G, CAN, Wi-Fi; Frequency: 40 MHz
footprint WE-SPXO_CFPS-72
pins: 1 Enable, 2 GND, 3 Output, 4 +Vs

## 831019170
designator Y?, comment 25 MHz
WE-SPXO Simple Packaged Quartz Oscillator, CFPS-73, 25 MHz, 50 ppm, 3.3 V; Manufacturer Part Number: 831019170; Manufacturer: Wurth Elektronik; Frequency Stability: 50 ppm; Output Logic: CMOS; Supply Voltage: 3.3 V; Category: Oscillators; Match Code: WE-SPXO; ComponentLink1Description: Website Link; ComponentLink1URL: https://www.we-online.com/redexpert/article/831019170?ad; ComponentLink2Description: Datasheet Link; ComponentLink2URL: https://www.we-online.com/redexpert/spec/831019170?ad; Mount: Surface Mount; Min Operating Temperature: -40 °C; Max Operating Temperature: 85 °C; Packaging: Tape and Reel; Case/Size Code: CFPS-73; Length: 7 mm; Width: 5 mm; Height: 1.8 mm; Application: Processor, USB, 3G/4G/5G, Ethernet, Small Cell, PHY, PCI Express; Frequency: 25 MHz
footprint WE-SPXO_CFPS-73
pins: 1 Enable, 2 GND, 3 Output, 4 +Vs

## 831019203
designator Y?, comment 32.768 MHz
WE-SPXO Simple Packaged Quartz Oscillator, CFPS-73, 32.768 MHz, 50 ppm, 3.3 V; Manufacturer Part Number: 831019203; Manufacturer: Wurth Elektronik; Frequency Stability: 50 ppm; Output Logic: CMOS; Supply Voltage: 3.3 V; Category: Oscillators; Match Code: WE-SPXO; ComponentLink1Description: Website Link; ComponentLink1URL: https://www.we-online.com/redexpert/article/831019203?ad; ComponentLink2Description: Datasheet Link; ComponentLink2URL: https://www.we-online.com/redexpert/spec/831019203?ad; Mount: Surface Mount; Min Operating Temperature: 0 °C; Max Operating Temperature: 70 °C; Packaging: Tape and Reel; Case/Size Code: CFPS-73; Length: 7 mm; Width: 5 mm; Height: 1.8 mm; Application: Processor; Frequency: 32.768 MHz
footprint WE-SPXO_CFPS-73
pins: 1 Enable, 2 GND, 3 Output, 4 +Vs

## 831019275
designator Y?, comment 16 MHz
WE-SPXO Simple Packaged Quartz Oscillator, CFPS-72, 16 MHz, 50 ppm, 5 V; Manufacturer Part Number: 831019275; Manufacturer: Wurth Elektronik; Frequency Stability: 50 ppm; Output Logic: CMOS; Supply Voltage: 5 V; Category: Oscillators; Match Code: WE-SPXO; ComponentLink1Description: Website Link; ComponentLink1URL: https://www.we-online.com/redexpert/article/831019275?ad; ComponentLink2Description: Datasheet Link; ComponentLink2URL: https://www.we-online.com/redexpert/spec/831019275?ad; Mount: Surface Mount; Min Operating Temperature: -40 °C; Max Operating Temperature: 85 °C; Packaging: Tape and Reel; Case/Size Code: CFPS-72; Length: 7 mm; Width: 5 mm; Height: 1.8 mm; Application: Processor, CAN, Bluetooth; Frequency: 16 MHz
footprint WE-SPXO_CFPS-72
pins: 1 Enable, 2 GND, 3 Output, 4 +Vs

## 831019710
designator Y?, comment 16 MHz
WE-SPXO Simple Packaged Quartz Oscillator, CFPS-73, 16 MHz, 50 ppm, 3.3 V; Manufacturer Part Number: 831019710; Manufacturer: Wurth Elektronik; Frequency Stability: 50 ppm; Output Logic: CMOS; Supply Voltage: 3.3 V; Category: Oscillators; Match Code: WE-SPXO; ComponentLink1Description: Website Link; ComponentLink1URL: https://www.we-online.com/redexpert/article/831019710?ad; ComponentLink2Description: Datasheet Link; ComponentLink2URL: https://www.we-online.com/redexpert/spec/831019710?ad; Mount: Surface Mount; Min Operating Temperature: -40 °C; Max Operating Temperature: 85 °C; Packaging: Tape and Reel; Case/Size Code: CFPS-73; Length: 7 mm; Width: 5 mm; Height: 1.8 mm; Application: Processor, CAN, Bluetooth; Frequency: 16 MHz
footprint WE-SPXO_CFPS-73
pins: 1 Enable, 2 GND, 3 Output, 4 +Vs

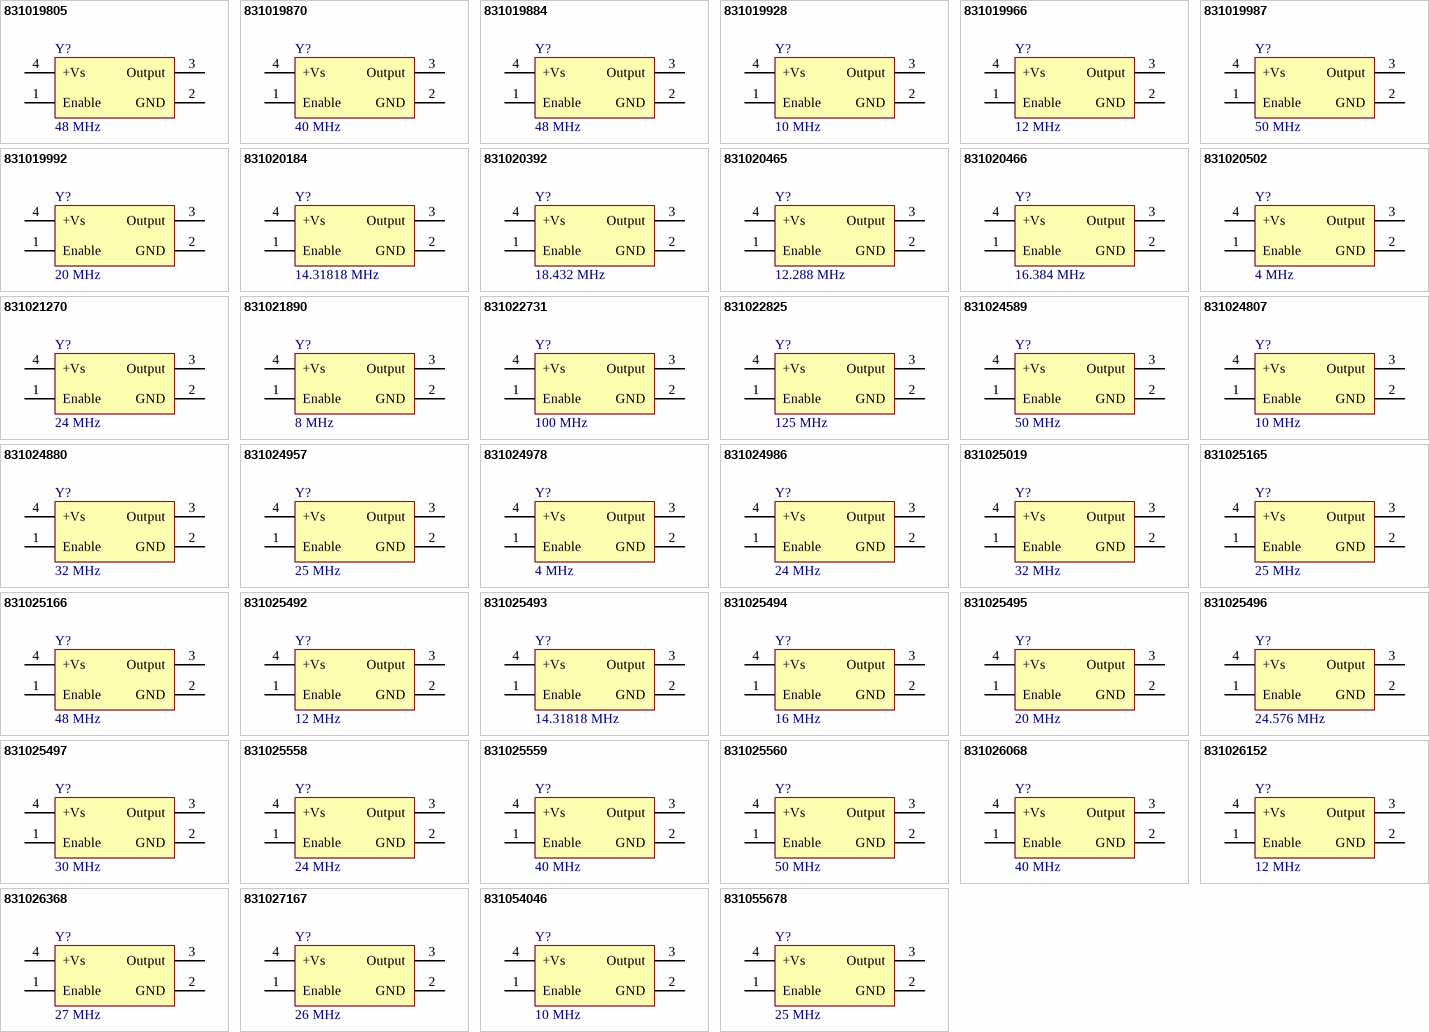
[diagram p1: symbols 831019805 to 831055678]

## 831019805
designator Y?, comment 48 MHz
WE-SPXO Simple Packaged Quartz Oscillator, CFPS-72, 48 MHz, 50 ppm, 5 V; Manufacturer Part Number: 831019805; Manufacturer: Wurth Elektronik; Frequency Stability: 50 ppm; Output Logic: CMOS; Supply Voltage: 5 V; Category: Oscillators; Match Code: WE-SPXO; ComponentLink1Description: Website Link; ComponentLink1URL: https://www.we-online.com/redexpert/article/831019805?ad; ComponentLink2Description: Datasheet Link; ComponentLink2URL: https://www.we-online.com/redexpert/spec/831019805?ad; Mount: Surface Mount; Min Operating Temperature: -40 °C; Max Operating Temperature: 85 °C; Packaging: Tape and Reel; Case/Size Code: CFPS-72; Length: 7 mm; Width: 5 mm; Height: 1.8 mm; Application: Processor, USB, Wi-Fi; Frequency: 48 MHz
footprint WE-SPXO_CFPS-72
pins: 1 Enable, 2 GND, 3 Output, 4 +Vs

## 831019870
designator Y?, comment 40 MHz
WE-SPXO Simple Packaged Quartz Oscillator, CFPS-73, 40 MHz, 100 ppm, 3.3 V; Manufacturer Part Number: 831019870; Manufacturer: Wurth Elektronik; Frequency Stability: 100 ppm; Output Logic: CMOS; Supply Voltage: 3.3 V; Category: Oscillators; Match Code: WE-SPXO; ComponentLink1Description: Website Link; ComponentLink1URL: https://www.we-online.com/redexpert/article/831019870?ad; ComponentLink2Description: Datasheet Link; ComponentLink2URL: https://www.we-online.com/redexpert/spec/831019870?ad; Mount: Surface Mount; Min Operating Temperature: -40 °C; Max Operating Temperature: 85 °C; Packaging: Tape and Reel; Case/Size Code: CFPS-73; Length: 7 mm; Width: 5 mm; Height: 1.8 mm; Application: Processor, USB, 3G/4G/5G, CAN, Wi-Fi; Frequency: 40 MHz
footprint WE-SPXO_CFPS-73
pins: 1 Enable, 2 GND, 3 Output, 4 +Vs

## 831019884
designator Y?, comment 48 MHz
WE-SPXO Simple Packaged Quartz Oscillator, CFPS-72, 48 MHz, 50 ppm, 5 V; Manufacturer Part Number: 831019884; Manufacturer: Wurth Elektronik; Frequency Stability: 50 ppm; Output Logic: CMOS; Supply Voltage: 5 V; Category: Oscillators; Match Code: WE-SPXO; ComponentLink1Description: Website Link; ComponentLink1URL: https://www.we-online.com/redexpert/article/831019884?ad; ComponentLink2Description: Datasheet Link; ComponentLink2URL: https://www.we-online.com/redexpert/spec/831019884?ad; Mount: Surface Mount; Min Operating Temperature: 0 °C; Max Operating Temperature: 70 °C; Packaging: Tape and Reel; Case/Size Code: CFPS-72; Length: 7 mm; Width: 5 mm; Height: 1.8 mm; Application: Processor, USB, Wi-Fi; Frequency: 48 MHz
footprint WE-SPXO_CFPS-72
pins: 1 Enable, 2 GND, 3 Output, 4 +Vs

## 831019928
designator Y?, comment 10 MHz
WE-SPXO Simple Packaged Quartz Oscillator, CFPS-73, 10 MHz, 50 ppm, 3.3 V; Manufacturer Part Number: 831019928; Manufacturer: Wurth Elektronik; Frequency Stability: 50 ppm; Output Logic: CMOS; Supply Voltage: 3.3 V; Category: Oscillators; Match Code: WE-SPXO; ComponentLink1Description: Website Link; ComponentLink1URL: https://www.we-online.com/redexpert/article/831019928?ad; ComponentLink2Description: Datasheet Link; ComponentLink2URL: https://www.we-online.com/redexpert/spec/831019928?ad; Mount: Surface Mount; Min Operating Temperature: -40 °C; Max Operating Temperature: 85 °C; Packaging: Tape and Reel; Case/Size Code: CFPS-73; Length: 7 mm; Width: 5 mm; Height: 1.8 mm; Application: Processor, Ethernet; Frequency: 10 MHz
footprint WE-SPXO_CFPS-73
pins: 1 Enable, 2 GND, 3 Output, 4 +Vs

## 831019966
designator Y?, comment 12 MHz
WE-SPXO Simple Packaged Quartz Oscillator, CFPS-73, 12 MHz, 50 ppm, 3.3 V; Manufacturer Part Number: 831019966; Manufacturer: Wurth Elektronik; Frequency Stability: 50 ppm; Output Logic: CMOS; Supply Voltage: 3.3 V; Category: Oscillators; Match Code: WE-SPXO; ComponentLink1Description: Website Link; ComponentLink1URL: https://www.we-online.com/redexpert/article/831019966?ad; ComponentLink2Description: Datasheet Link; ComponentLink2URL: https://www.we-online.com/redexpert/spec/831019966?ad; Mount: Surface Mount; Min Operating Temperature: -40 °C; Max Operating Temperature: 85 °C; Packaging: Tape and Reel; Case/Size Code: CFPS-73; Length: 7 mm; Width: 5 mm; Height: 1.8 mm; Application: Processor, USB, CAN; Frequency: 12 MHz
footprint WE-SPXO_CFPS-73
pins: 1 Enable, 2 GND, 3 Output, 4 +Vs

## 831019987
designator Y?, comment 50 MHz
WE-SPXO Simple Packaged Quartz Oscillator, CFPS-73, 50 MHz, 50 ppm, 3.3 V; Manufacturer Part Number: 831019987; Manufacturer: Wurth Elektronik; Frequency Stability: 50 ppm; Output Logic: CMOS; Supply Voltage: 3.3 V; Category: Oscillators; Match Code: WE-SPXO; ComponentLink1Description: Website Link; ComponentLink1URL: https://www.we-online.com/redexpert/article/831019987?ad; ComponentLink2Description: Datasheet Link; ComponentLink2URL: https://www.we-online.com/redexpert/spec/831019987?ad; Mount: Surface Mount; Min Operating Temperature: -40 °C; Max Operating Temperature: 85 °C; Packaging: Tape and Reel; Case/Size Code: CFPS-73; Length: 7 mm; Width: 5 mm; Height: 1.8 mm; Application: Processor, Ethernet, PCI Express, PHY; Frequency: 50 MHz
footprint WE-SPXO_CFPS-73
pins: 1 Enable, 2 GND, 3 Output, 4 +Vs

## 831019992
designator Y?, comment 20 MHz
WE-SPXO Simple Packaged Quartz Oscillator, CFPS-73, 20 MHz, 50 ppm, 3.3 V; Manufacturer Part Number: 831019992; Manufacturer: Wurth Elektronik; Frequency Stability: 50 ppm; Output Logic: CMOS; Supply Voltage: 3.3 V; Category: Oscillators; Match Code: WE-SPXO; ComponentLink1Description: Website Link; ComponentLink1URL: https://www.we-online.com/redexpert/article/831019992?ad; ComponentLink2Description: Datasheet Link; ComponentLink2URL: https://www.we-online.com/redexpert/spec/831019992?ad; Mount: Surface Mount; Min Operating Temperature: -40 °C; Max Operating Temperature: 85 °C; Packaging: Tape and Reel; Case/Size Code: CFPS-73; Length: 7 mm; Width: 5 mm; Height: 1.8 mm; Application: Processor, CAN, USB, Ethernet, Wi-Fi; Frequency: 20 MHz
footprint WE-SPXO_CFPS-73
pins: 1 Enable, 2 GND, 3 Output, 4 +Vs

## 831020184
designator Y?, comment 14.31818 MHz
WE-SPXO Simple Packaged Quartz Oscillator, CFPS-73, 14.31818 MHz, 50 ppm, 3.3 V; Manufacturer Part Number: 831020184; Manufacturer: Wurth Elektronik; Frequency Stability: 50 ppm; Output Logic: CMOS; Supply Voltage: 3.3 V; Category: Oscillators; Match Code: WE-SPXO; ComponentLink1Description: Website Link; ComponentLink1URL: https://www.we-online.com/redexpert/article/831020184?ad; ComponentLink2Description: Datasheet Link; ComponentLink2URL: https://www.we-online.com/redexpert/spec/831020184?ad; Mount: Surface Mount; Min Operating Temperature: -40 °C; Max Operating Temperature: 85 °C; Packaging: Tape and Reel; Case/Size Code: CFPS-73; Length: 7 mm; Width: 5 mm; Height: 1.8 mm; Application: Processor; Frequency: 14.31818 MHz
footprint WE-SPXO_CFPS-73
pins: 1 Enable, 2 GND, 3 Output, 4 +Vs

## 831020392
designator Y?, comment 18.432 MHz
WE-SPXO Simple Packaged Quartz Oscillator, CFPS-73, 18.432 MHz, 50 ppm, 3.3 V; Manufacturer Part Number: 831020392; Manufacturer: Wurth Elektronik; Frequency Stability: 50 ppm; Output Logic: CMOS; Supply Voltage: 3.3 V; Category: Oscillators; Match Code: WE-SPXO; ComponentLink1Description: Website Link; ComponentLink1URL: https://www.we-online.com/redexpert/article/831020392?ad; ComponentLink2Description: Datasheet Link; ComponentLink2URL: https://www.we-online.com/redexpert/spec/831020392?ad; Mount: Surface Mount; Min Operating Temperature: -40 °C; Max Operating Temperature: 85 °C; Packaging: Tape and Reel; Case/Size Code: CFPS-73; Length: 7 mm; Width: 5 mm; Height: 1.8 mm; Application: UART, Audio; Frequency: 18.432 MHz
footprint WE-SPXO_CFPS-73
pins: 1 Enable, 2 GND, 3 Output, 4 +Vs

## 831020465
designator Y?, comment 12.288 MHz
WE-SPXO Simple Packaged Quartz Oscillator, CFPS-73, 12.288 MHz, 50 ppm, 3.3 V; Manufacturer Part Number: 831020465; Manufacturer: Wurth Elektronik; Frequency Stability: 50 ppm; Output Logic: CMOS; Supply Voltage: 3.3 V; Category: Oscillators; Match Code: WE-SPXO; ComponentLink1Description: Website Link; ComponentLink1URL: https://www.we-online.com/redexpert/article/831020465?ad; ComponentLink2Description: Datasheet Link; ComponentLink2URL: https://www.we-online.com/redexpert/spec/831020465?ad; Mount: Surface Mount; Min Operating Temperature: 0 °C; Max Operating Temperature: 70 °C; Packaging: Tape and Reel; Case/Size Code: CFPS-73; Length: 7 mm; Width: 5 mm; Height: 1.8 mm; Application: UART, Audio; Frequency: 12.288 MHz
footprint WE-SPXO_CFPS-73
pins: 1 Enable, 2 GND, 3 Output, 4 +Vs

## 831020466
designator Y?, comment 16.384 MHz
WE-SPXO Simple Packaged Quartz Oscillator, CFPS-73, 16.384 MHz, 50 ppm, 3.3 V; Manufacturer Part Number: 831020466; Manufacturer: Wurth Elektronik; Frequency Stability: 50 ppm; Output Logic: CMOS; Supply Voltage: 3.3 V; Category: Oscillators; Match Code: WE-SPXO; ComponentLink1Description: Website Link; ComponentLink1URL: https://www.we-online.com/redexpert/article/831020466?ad; ComponentLink2Description: Datasheet Link; ComponentLink2URL: https://www.we-online.com/redexpert/spec/831020466?ad; Mount: Surface Mount; Min Operating Temperature: 0 °C; Max Operating Temperature: 70 °C; Packaging: Tape and Reel; Case/Size Code: CFPS-73; Length: 7 mm; Width: 5 mm; Height: 1.8 mm; Application: Audio, GPS; Frequency: 16.384 MHz
footprint WE-SPXO_CFPS-73
pins: 1 Enable, 2 GND, 3 Output, 4 +Vs

## 831020502
designator Y?, comment 4 MHz
WE-SPXO Simple Packaged Quartz Oscillator, CFPS-72, 4 MHz, 50 ppm, 5 V; Manufacturer Part Number: 831020502; Manufacturer: Wurth Elektronik; Frequency Stability: 50 ppm; Output Logic: CMOS; Supply Voltage: 5 V; Category: Oscillators; Match Code: WE-SPXO; ComponentLink1Description: Website Link; ComponentLink1URL: https://www.we-online.com/redexpert/article/831020502?ad; ComponentLink2Description: Datasheet Link; ComponentLink2URL: https://www.we-online.com/redexpert/spec/831020502?ad; Mount: Surface Mount; Min Operating Temperature: -40 °C; Max Operating Temperature: 85 °C; Packaging: Tape and Reel; Case/Size Code: CFPS-72; Length: 7 mm; Width: 5 mm; Height: 1.8 mm; Application: CAN, Processor; Frequency: 4 MHz
footprint WE-SPXO_CFPS-72
pins: 1 Enable, 2 GND, 3 Output, 4 +Vs

## 831021270
designator Y?, comment 24 MHz
WE-SPXO Simple Packaged Quartz Oscillator, CFPS-73, 24 MHz, 50 ppm, 3.3 V; Manufacturer Part Number: 831021270; Manufacturer: Wurth Elektronik; Frequency Stability: 50 ppm; Output Logic: CMOS; Supply Voltage: 3.3 V; Category: Oscillators; Match Code: WE-SPXO; ComponentLink1Description: Website Link; ComponentLink1URL: https://www.we-online.com/redexpert/article/831021270?ad; ComponentLink2Description: Datasheet Link; ComponentLink2URL: https://www.we-online.com/redexpert/spec/831021270?ad; Mount: Surface Mount; Min Operating Temperature: -40 °C; Max Operating Temperature: 85 °C; Packaging: Tape and Reel; Case/Size Code: CFPS-73; Length: 7 mm; Width: 5 mm; Height: 1.8 mm; Application: Processor, USB, Bluetooth; Frequency: 24 MHz
footprint WE-SPXO_CFPS-73
pins: 1 Enable, 2 GND, 3 Output, 4 +Vs

## 831021890
designator Y?, comment 8 MHz
WE-SPXO Simple Packaged Quartz Oscillator, CFPS-73, 8 MHz, 50 ppm, 3.3 V; Manufacturer Part Number: 831021890; Manufacturer: Wurth Elektronik; Frequency Stability: 50 ppm; Output Logic: CMOS; Supply Voltage: 3.3 V; Category: Oscillators; Match Code: WE-SPXO; ComponentLink1Description: Website Link; ComponentLink1URL: https://www.we-online.com/redexpert/article/831021890?ad; ComponentLink2Description: Datasheet Link; ComponentLink2URL: https://www.we-online.com/redexpert/spec/831021890?ad; Mount: Surface Mount; Min Operating Temperature: -40 °C; Max Operating Temperature: 85 °C; Packaging: Tape and Reel; Case/Size Code: CFPS-73; Length: 7 mm; Width: 5 mm; Height: 1.8 mm; Application: Processor, UART; Frequency: 8 MHz
footprint WE-SPXO_CFPS-73
pins: 1 Enable, 2 GND, 3 Output, 4 +Vs

## 831022731
designator Y?, comment 100 MHz
WE-SPXO Simple Packaged Quartz Oscillator, CFPS-73, 100 MHz, 50 ppm, 3.3 V; Manufacturer Part Number: 831022731; Manufacturer: Wurth Elektronik; Frequency Stability: 50 ppm; Output Logic: CMOS; Supply Voltage: 3.3 V; Category: Oscillators; Match Code: WE-SPXO; ComponentLink1Description: Website Link; ComponentLink1URL: https://www.we-online.com/redexpert/article/831022731?ad; ComponentLink2Description: Datasheet Link; ComponentLink2URL: https://www.we-online.com/redexpert/spec/831022731?ad; Mount: Surface Mount; Min Operating Temperature: -40 °C; Max Operating Temperature: 85 °C; Packaging: Tape and Reel; Case/Size Code: CFPS-73; Length: 7 mm; Width: 5 mm; Height: 1.8 mm; Application: Processor, Ethernet, PCI Express, PHY; Frequency: 100 MHz
footprint WE-SPXO_CFPS-73
pins: 1 Enable, 2 GND, 3 Output, 4 +Vs

## 831022825
designator Y?, comment 125 MHz
WE-SPXO Simple Packaged Quartz Oscillator, CFPS-73, 125 MHz, 50 ppm, 3.3 V; Manufacturer Part Number: 831022825; Manufacturer: Wurth Elektronik; Frequency Stability: 50 ppm; Output Logic: CMOS; Supply Voltage: 3.3 V; Category: Oscillators; Match Code: WE-SPXO; ComponentLink1Description: Website Link; ComponentLink1URL: https://www.we-online.com/redexpert/article/831022825?ad; ComponentLink2Description: Datasheet Link; ComponentLink2URL: https://www.we-online.com/redexpert/spec/831022825?ad; Mount: Surface Mount; Min Operating Temperature: -40 °C; Max Operating Temperature: 85 °C; Packaging: Tape and Reel; Case/Size Code: CFPS-73; Length: 7 mm; Width: 5 mm; Height: 1.8 mm; Application: Ethernet, PHY; Frequency: 125 MHz
footprint WE-SPXO_CFPS-73
pins: 1 Enable, 2 GND, 3 Output, 4 +Vs

## 831024589
designator Y?, comment 50 MHz
WE-SPXO Simple Packaged Quartz Oscillator, CFPS-9, 50 MHz, 50 ppm, 3.3 V; Manufacturer Part Number: 831024589; Manufacturer: Wurth Elektronik; Frequency Stability: 50 ppm; Output Logic: CMOS; Supply Voltage: 3.3 V; Category: Oscillators; Match Code: WE-SPXO; ComponentLink1Description: Website Link; ComponentLink1URL: https://www.we-online.com/redexpert/article/831024589?ad; ComponentLink2Description: Datasheet Link; ComponentLink2URL: https://www.we-online.com/redexpert/spec/831024589?ad; Mount: Surface Mount; Min Operating Temperature: -40 °C; Max Operating Temperature: 85 °C; Packaging: Tape and Reel; Case/Size Code: CFPS-9; Length: 5 mm; Width: 3.2 mm; Height: 1.3 mm; Application: Processor, Ethernet, PCI Express, PHY; Frequency: 50 MHz
footprint WE-SPXO_CFPS-9
pins: 1 Enable, 2 GND, 3 Output, 4 +Vs

## 831024807
designator Y?, comment 10 MHz
WE-SPXO Simple Packaged Quartz Oscillator, CFPS-9, 10 MHz, 50 ppm, 3.3 V; Manufacturer Part Number: 831024807; Manufacturer: Wurth Elektronik; Frequency Stability: 50 ppm; Output Logic: CMOS; Supply Voltage: 3.3 V; Category: Oscillators; Match Code: WE-SPXO; ComponentLink1Description: Website Link; ComponentLink1URL: https://www.we-online.com/redexpert/article/831024807?ad; ComponentLink2Description: Datasheet Link; ComponentLink2URL: https://www.we-online.com/redexpert/spec/831024807?ad; Mount: Surface Mount; Min Operating Temperature: -40 °C; Max Operating Temperature: 85 °C; Packaging: Tape and Reel; Case/Size Code: CFPS-9; Length: 5 mm; Width: 3.2 mm; Height: 1.3 mm; Application: Processor, Ethernet; Frequency: 10 MHz
footprint WE-SPXO_CFPS-9
pins: 1 Enable, 2 GND, 3 Output, 4 +Vs